# Altium footprint library DWM1000.PcbLib: 1 footprints
Each footprint in its own frame and in the unit in brackets; x right, y up, seen from the top. Pads: shape width x height; smd on the part's side, far side on the other; paste and mask are expansions set on the pad; w line width, h text height; cw(c..) or ccw(c..) is an arc to the next point about the centre after c.
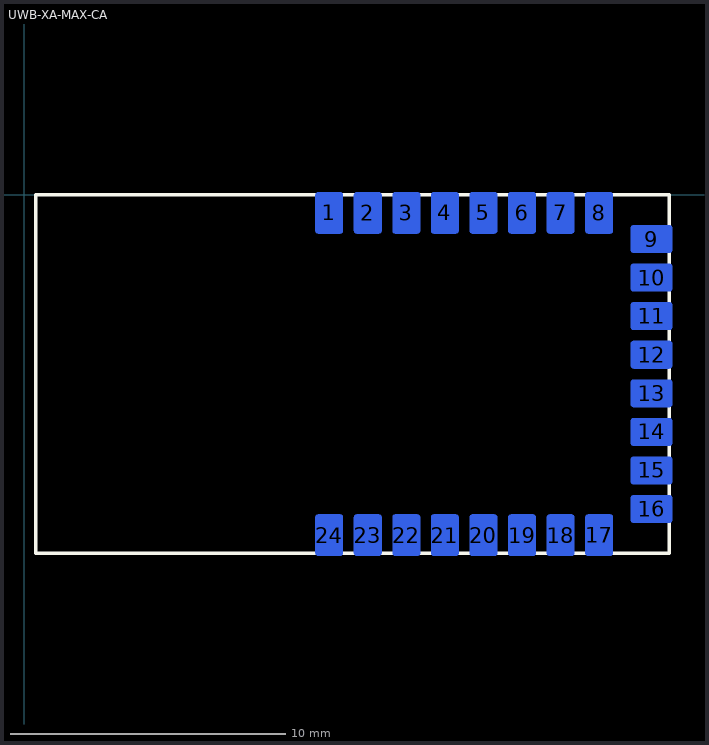
[diagram p0: the footprint, top view; thin cyan lines are the x and y axes]

## UWB-XA-MAX-CA [mm]
pads (24):
  rrect20% 1x1.5 smd far side: 1(11.068,-0.65) 2(12.468,-0.65) 3(13.868,-0.65) 4(15.268,-0.65) 5(16.668,-0.65) 6(18.068,-0.65) 7(19.468,-0.65) 8(20.868,-0.65) 17(20.868,-12.349) 18(19.468,-12.349) 19(18.068,-12.349) 20(16.668,-12.349) 21(15.268,-12.349) 22(13.868,-12.349) 23(12.468,-12.349) 24(11.068,-12.349)
  rrect20% 1.5x1 smd far side: 9(22.769,-1.6) 10(22.769,-3) 11(22.769,-4.4) 12(22.769,-5.8) 13(22.769,-7.2) 14(22.769,-8.6) 15(22.769,-10) 16(22.769,-11.4)
Top Overlay:
  lines w0.127: 0.418,-12.999 23.418,-12.999 23.418,0 0.418,0 0.418,-13
3D body "DWM1000 Module.STEP": height 2.5, standoff -0.4, extent 0.428,-13.097 23.428,0.103